# Altium schematic symbol library Led.SchLib: 11 symbols
Pins are listed as number, name and electrical type; pins without a type are passive.

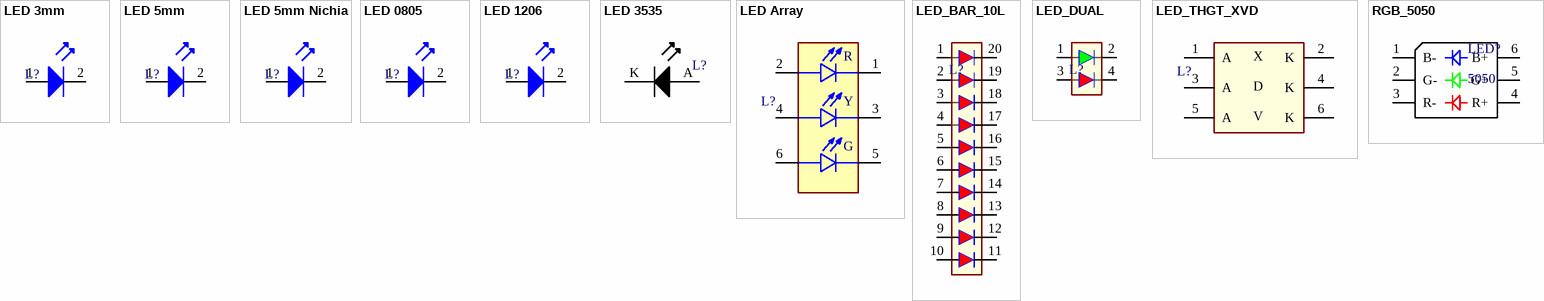
[diagram p0: symbols LED 3mm to RGB_5050]

## LED 3mm
designator L?, comment LED 0805  (value not drawn)
Through hole; Kieu_Chan: 0805; Don_Vi: Con; Chung_Loai: SMD; Ten_Linh_Kien: LED 0805
footprint LED 3mm
footprint LED_3mm_SMD_THROUGH
pins: 1, 2

## LED 5mm
designator L?  (value not drawn)
Through hole; Kieu_Chan: 0805; Don_Vi: Con; Chung_Loai: SMD; Ten_Linh_Kien: LED 0805
footprint LED 5mm
pins: 1, 2

## LED 5mm Nichia
designator L?  (value not drawn)
Nichia, Through hole; Kieu_Chan: 0805; Don_Vi: Con; Chung_Loai: SMD; Ten_Linh_Kien: LED 0805
footprint LED 5mm
pins: 1, 2

## LED 0805
designator L?  (value not drawn)
SMD; Kieu_Chan: 0805; Don_Vi: Con; Chung_Loai: SMD; Ten_Linh_Kien: LED 0805
footprint LED 0805
pins: 1, 2

## LED 1206
designator L?  (value not drawn)
SMD; Kieu_Chan: 1206; Don_Vi: Con; Chung_Loai: SMD; Ten_Linh_Kien: LED 1206
footprint LED 1206
pins: 1, 2

## LED 3535
designator L?, comment LED 3535 NICHIA  (value not drawn)
SMD
footprint LED 3535 NICHIA
pins: A, K

## LED Array
designator L?  (value not drawn)
Through hole; MP: WP934SA/LILYLGD; MF: Kingbright; Value: *; Availability: In Stock; SnapEDA_Link: https://www.snapeda.com/parts/WP934SA/LILYLGD/Kingbright/view-part/?ref=snap; Purchase-URL: https://pricing.snapeda.com/search/part/WP934SA/LILYLGD/?ref=eda; Check_prices: https://www.snapeda.com/parts/WP934SA/LILYLGD/Kingbright/view-part/?ref=eda; Package: Custom Kingbright
footprint LED_RGB_3mm
pins: 1 LED1_C, 2 LED1_A, 3 LED2_C, 4 LED2_A, 5 LED3_C, 6 LED3_A
text: R; Y; G

## LED_BAR_10L
designator L?  (value not drawn)
Through hole
footprint LEDBAR-10-RED
pins: 1, 2, 3, 4, 5, 6, 7, 8, 9, 10, 11, 12, 13, 14, 15, 16, 17, 18, 19, 20

## LED_DUAL
designator L?  (value not drawn)
Through hole
footprint Led 3mm_dual (Led 3mm)
pins: 1 A, 2 K, 3 A, 4 K

## LED_THGT_XVD
designator L?  (value not drawn)
Through hole
footprint LED_XDV_D300
footprint LED_XDV_DN (LED_XDV_DN400_DN600)
pins: 1 A, 2 K, 3 A, 4 K, 5 A, 6 K
text: X; D; V

## RGB_5050
designator LED?, comment 5050
Foryard FYLS-5050RGBC
footprint RGB_5050 (FYLS-5050RGBC)
pins: 1 B-, 2 G-, 3 R-, 4 R+, 5 G+, 6 B+